# Altium schematic symbol library kmilo17pet-LT_OpAmp_LT2000.SchLib: 1710 symbols (part 27 of 75)
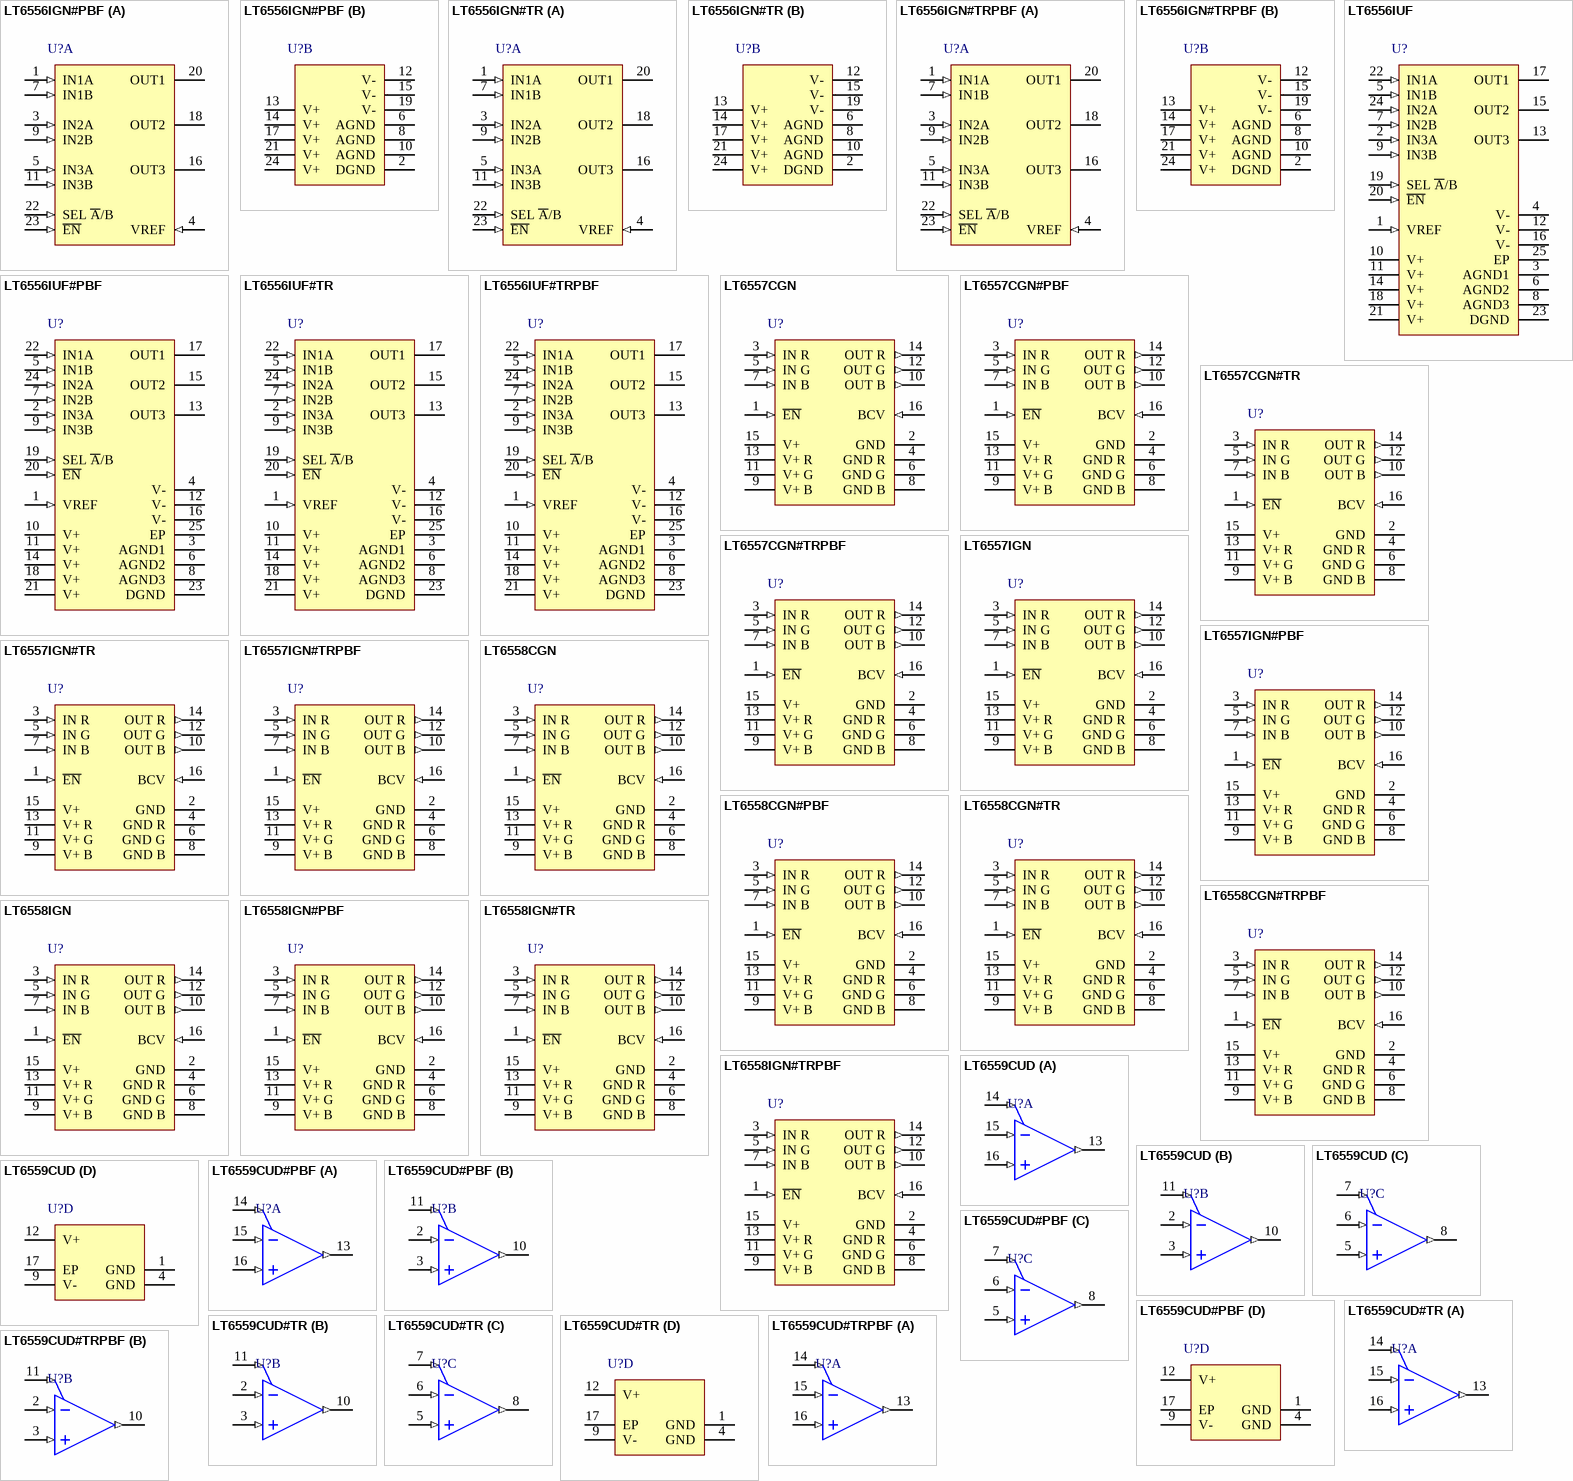
[diagram p106: symbols LT6556IGN#PBF to LT6559CUD#TRPBF]

## LT6558IGN#TRPBF
designator U?
3 Channel, Single Supply Video Amplifier with Input Bias Control, 550 MHz Typical GBW, 2200 V/us Typical SR, 3 to 7.5 V, 16-Pin SOP (GN-16), Industrial, Pb-Free, Reel; Linear Technology Part Number: LT6558; Manufacturer: Linear Technology; PartNumber: LT6558IGN#TRPBF; Channels (#): 3; GBW (MHz) Typical: 550; Is (mA) Typical: 22.5; SR (V/us) Typical: 2200; Vos (mV) Typical: 12; Vs Max (V): 7.5; PackageVersion: Rev B; PackageReference: LT-GN-16; PackageDescription: 16-Lead Plastic SSOP, Body 4.9 x 3.9 mm, Pitch 0.635 mm; Supplier 1: Digi-Key; Supplier Part Number 1: LT6558IGN#TRPBF-ND; Packing: Reel; RoHS: Pb-Free; Type: CFA; Vs Min (V): 3; Mounting Technology: Surface Mount; ComponentLink1Description: Manufacturer URL; ComponentLink1URL: http://www.linear.com/; ComponentLink2Description: Datasheet; ComponentLink2URL: http://cds.linear.com/docs/en/datasheet/6558f.pdf; ComponentLink3Description: Package Specification; ComponentLink3URL: http://cds.linear.com/docs/en/packaging/05081641_B_GN16.pdf
footprint LT-GN-16_N (SOP, 16-Leads, Body 4.9x3.9mm, Pitch 0.635mm, IPC Medium Density)
footprint LT-GN-16_L (SOP, 16-Leads, Body 4.9x3.9mm, Pitch 0.635mm, IPC High Density)
footprint LT-GN-16_M (SOP, 16-Leads, Body 4.9x3.9mm, Pitch 0.635mm, IPC Low Density)
pins: 1 ~{EN} (in) "Enable Control Pin. The part is enabled when this pin is pulled low. An internal pull-up resistor of 40k will turn the part off if this pin is unconnected", 2 GND (power) "Ground Reference for Enable Pin (Pin 1) and Bias Control Voltage Pin (Pin 16). This pin must be connected externally to ground", 3 IN R (in) "Red Channel Input. This pin has a nominal impedance of 450k ohm with input bias circuit inactive, Pin 16 open.", 4 GND R (power) "Ground of Red Channel Amplifi er. This pin is not internally connected to other ground pins and must be connected externally to ground.", 5 IN G (in) "Green Channel Input. This pin has a nominal impedance of 450k ohm with input bias circuit inactive, Pin 16 open.", 6 GND G (power) "Ground of Green Channel Amplifi er. This pin is not internally connected to other ground pins and must be connected externally to ground.", 7 IN B (in) "Blue Channel Input. This pin has a nominal impedance of 450k ohm with input bias circuit inactive, Pin 16 open.", 8 GND B (power) "Ground of Blue Channel Amplifi er. This pin is not internally connected to other ground pins and must be connected externally to ground.", 9 V+ B (power) "Positive Supply Voltage of Blue Channel Amplifi er. This pin is not internally connected to other supply voltage pins and must be externally connected to the supply voltage bus with proper bypassing. For best performance, (See Datasheet)", 10 OUT B (out) "Blue Channel Output.", 11 V+ G (power) "Positive Supply Voltage of Green Channel Amplifi er. This pin is not internally connected to other supply voltage pins and must be externally connected to the supply voltage bus with proper bypassing. For best performance, (See Datasheet)", 12 OUT G (out) "Green Channel Output.", 13 V+ R (power) "Positive Supply Voltage of Red Channel Amplifi er. This pin is not internally connected to other supply voltage pins and must be externally connected tothe supply voltage bus with proper bypassing. For best performance, see (See Datasheet)", 14 OUT R (out) "Red Channel Output.", 15 V+ (power) "Positive Supply Voltage of Control Circuitry. This pin is not internally connected to other supply voltage pins and must be externally connected to supply voltage bus with proper bypassing. For best performance, see Power (See Datasheet)", 16 BCV (in) "Bias Control Voltage. A resistor connected between Pin 16 and Pin 2 (GND) will generate a DC voltage bias at the inputs of the three amplifi ers for AC coupling application, see Programmable Input Bias."

## LT6559CUD
designator U?
3 Channel, Low Cost Video Amplifier, 300 MHz Typical GBW, 500 V/us Typical SR, 4 to 12 V, 16-Pin QFN (UD-16), Commercial; Linear Technology Part Number: LT6559; Manufacturer: Linear Technology; PartNumber: LT6559CUD; Channels (#): 3; GBW (MHz) Typical: 300; Is (mA) Typical: 3.9; SR (V/us) Typical: 500; Vos (mV) Typical: 1.5; Vs Max (V): 12; Vs Min (V): 4; PackageReference: LT-UD-16; PackageDescription: 16-Lead Plastic QFN, Body 3.00 x 3.00 mm, Pitch 0.5 mm; Type: VIDEO; Mounting Technology: Surface Mount; Code_JEDEC: MO-220; ComponentLink1Description: Manufacturer URL; ComponentLink1URL: http://www.linear.com/; ComponentLink2Description: Datasheet; ComponentLink2URL: http://cds.linear.com/docs/en/datasheet/6559f.pdf; ComponentLink3Description: Package Specification; ComponentLink3URL: http://cds.linear.com/docs/en/packaging/QFN_16_05-08-1691.pdf
footprint LT-UD-16_N (QFN, 16-Leads, Body 3x3mm, Pitch 0.5mm, Thermal Pad 1.45x1.45mm, IPC Medium Density)
footprint LT-UD-16_L (QFN, 16-Leads, Body 3x3mm, Pitch 0.5mm, Thermal Pad 1.45x1.45mm, IPC High Density)
footprint LT-UD-16_M (QFN, 16-Leads, Body 3x3mm, Pitch 0.5mm, Thermal Pad 1.45x1.45mm, IPC Low Density)
part A pins: 13 OUT R (out) "R Channel Output.", 14 ~{EN} R (in) "R Channel Enable Pin. Logic low to enable.", 15 -IN R (in) "Inverting Input of R Channel Amplifier.", 16 +IN R (in) "Noninverting Input of R Channel Amplifier."
part B pins: 2 -IN G (in) "Inverting Input of G Channel Amplifier.", 3 +IN G (in) "Noninverting Input of G Channel Amplifier.", 10 OUT G (out) "G Channel Output.", 11 ~{EN} G (in) "G Channel Enable Pin. Logic low to enable."
part C pins: 5 +IN B (in) "Noninverting Input of B Channel Amplifier.", 6 -IN B (in) "Inverting Input of B Channel Amplifier.", 7 ~{EN} B (in) "B Channel Enable Pin. Logic low to enable.", 8 OUT B (out) "B Channel Output."
part D pins: 1 GND (power) "Ground. Not connected internally.", 4 GND (power) "Ground. Not connected internally.", 9 V- (power) "Negative Supply Voltage, Usually Ground or -5V.", 12 V+ (power) "Positive Supply Voltage, Usually 5V.", 17 EP (power) "V-. Must Be Soldered to the PCB."

## LT6559CUD#PBF
designator U?
3 Channel, Low Cost Video Amplifier, 300 MHz Typical GBW, 500 V/us Typical SR, 4 to 12 V, 16-Pin QFN (UD-16), Commercial, Pb-Free; Linear Technology Part Number: LT6559; Manufacturer: Linear Technology; PartNumber: LT6559CUD#PBF; Channels (#): 3; GBW (MHz) Typical: 300; Is (mA) Typical: 3.9; SR (V/us) Typical: 500; Vos (mV) Typical: 1.5; Vs Max (V): 12; Vs Min (V): 4; PackageReference: LT-UD-16; PackageDescription: 16-Lead Plastic QFN, Body 3.00 x 3.00 mm, Pitch 0.5 mm; Supplier 1: Digi-Key; Supplier Part Number 1: LT6559CUD#PBF-ND; Supplier 2: Farnell; Supplier Part Number 2: 1329370; RoHS: Pb-Free; Type: VIDEO; Mounting Technology: Surface Mount; Code_JEDEC: MO-220; ComponentLink1Description: Manufacturer URL; ComponentLink1URL: http://www.linear.com/; ComponentLink2Description: Datasheet; ComponentLink2URL: http://cds.linear.com/docs/en/datasheet/6559f.pdf; ComponentLink3Description: Package Specification; ComponentLink3URL: http://cds.linear.com/docs/en/packaging/QFN_16_05-08-1691.pdf
footprint LT-UD-16_N (QFN, 16-Leads, Body 3x3mm, Pitch 0.5mm, Thermal Pad 1.45x1.45mm, IPC Medium Density)
footprint LT-UD-16_L (QFN, 16-Leads, Body 3x3mm, Pitch 0.5mm, Thermal Pad 1.45x1.45mm, IPC High Density)
footprint LT-UD-16_M (QFN, 16-Leads, Body 3x3mm, Pitch 0.5mm, Thermal Pad 1.45x1.45mm, IPC Low Density)
part A pins: 13 OUT R (out) "R Channel Output.", 14 ~{EN} R (in) "R Channel Enable Pin. Logic low to enable.", 15 -IN R (in) "Inverting Input of R Channel Amplifier.", 16 +IN R (in) "Noninverting Input of R Channel Amplifier."
part B pins: 2 -IN G (in) "Inverting Input of G Channel Amplifier.", 3 +IN G (in) "Noninverting Input of G Channel Amplifier.", 10 OUT G (out) "G Channel Output.", 11 ~{EN} G (in) "G Channel Enable Pin. Logic low to enable."
part C pins: 5 +IN B (in) "Noninverting Input of B Channel Amplifier.", 6 -IN B (in) "Inverting Input of B Channel Amplifier.", 7 ~{EN} B (in) "B Channel Enable Pin. Logic low to enable.", 8 OUT B (out) "B Channel Output."
part D pins: 1 GND (power) "Ground. Not connected internally.", 4 GND (power) "Ground. Not connected internally.", 9 V- (power) "Negative Supply Voltage, Usually Ground or -5V.", 12 V+ (power) "Positive Supply Voltage, Usually 5V.", 17 EP (power) "V-. Must Be Soldered to the PCB."

## LT6559CUD#TR
designator U?
3 Channel, Low Cost Video Amplifier, 300 MHz Typical GBW, 500 V/us Typical SR, 4 to 12 V, 16-Pin QFN (UD-16), Commercial, Reel; Linear Technology Part Number: LT6559; Manufacturer: Linear Technology; PartNumber: LT6559CUD#TR; Channels (#): 3; GBW (MHz) Typical: 300; Is (mA) Typical: 3.9; SR (V/us) Typical: 500; Vos (mV) Typical: 1.5; Vs Max (V): 12; Vs Min (V): 4; PackageReference: LT-UD-16; PackageDescription: 16-Lead Plastic QFN, Body 3.00 x 3.00 mm, Pitch 0.5 mm; Packing: Reel; Type: VIDEO; Mounting Technology: Surface Mount; Code_JEDEC: MO-220; ComponentLink1Description: Manufacturer URL; ComponentLink1URL: http://www.linear.com/; ComponentLink2Description: Datasheet; ComponentLink2URL: http://cds.linear.com/docs/en/datasheet/6559f.pdf; ComponentLink3Description: Package Specification; ComponentLink3URL: http://cds.linear.com/docs/en/packaging/QFN_16_05-08-1691.pdf
footprint LT-UD-16_N (QFN, 16-Leads, Body 3x3mm, Pitch 0.5mm, Thermal Pad 1.45x1.45mm, IPC Medium Density)
footprint LT-UD-16_L (QFN, 16-Leads, Body 3x3mm, Pitch 0.5mm, Thermal Pad 1.45x1.45mm, IPC High Density)
footprint LT-UD-16_M (QFN, 16-Leads, Body 3x3mm, Pitch 0.5mm, Thermal Pad 1.45x1.45mm, IPC Low Density)
part A pins: 13 OUT R (out) "R Channel Output.", 14 ~{EN} R (in) "R Channel Enable Pin. Logic low to enable.", 15 -IN R (in) "Inverting Input of R Channel Amplifier.", 16 +IN R (in) "Noninverting Input of R Channel Amplifier."
part B pins: 2 -IN G (in) "Inverting Input of G Channel Amplifier.", 3 +IN G (in) "Noninverting Input of G Channel Amplifier.", 10 OUT G (out) "G Channel Output.", 11 ~{EN} G (in) "G Channel Enable Pin. Logic low to enable."
part C pins: 5 +IN B (in) "Noninverting Input of B Channel Amplifier.", 6 -IN B (in) "Inverting Input of B Channel Amplifier.", 7 ~{EN} B (in) "B Channel Enable Pin. Logic low to enable.", 8 OUT B (out) "B Channel Output."
part D pins: 1 GND (power) "Ground. Not connected internally.", 4 GND (power) "Ground. Not connected internally.", 9 V- (power) "Negative Supply Voltage, Usually Ground or -5V.", 12 V+ (power) "Positive Supply Voltage, Usually 5V.", 17 EP (power) "V-. Must Be Soldered to the PCB."

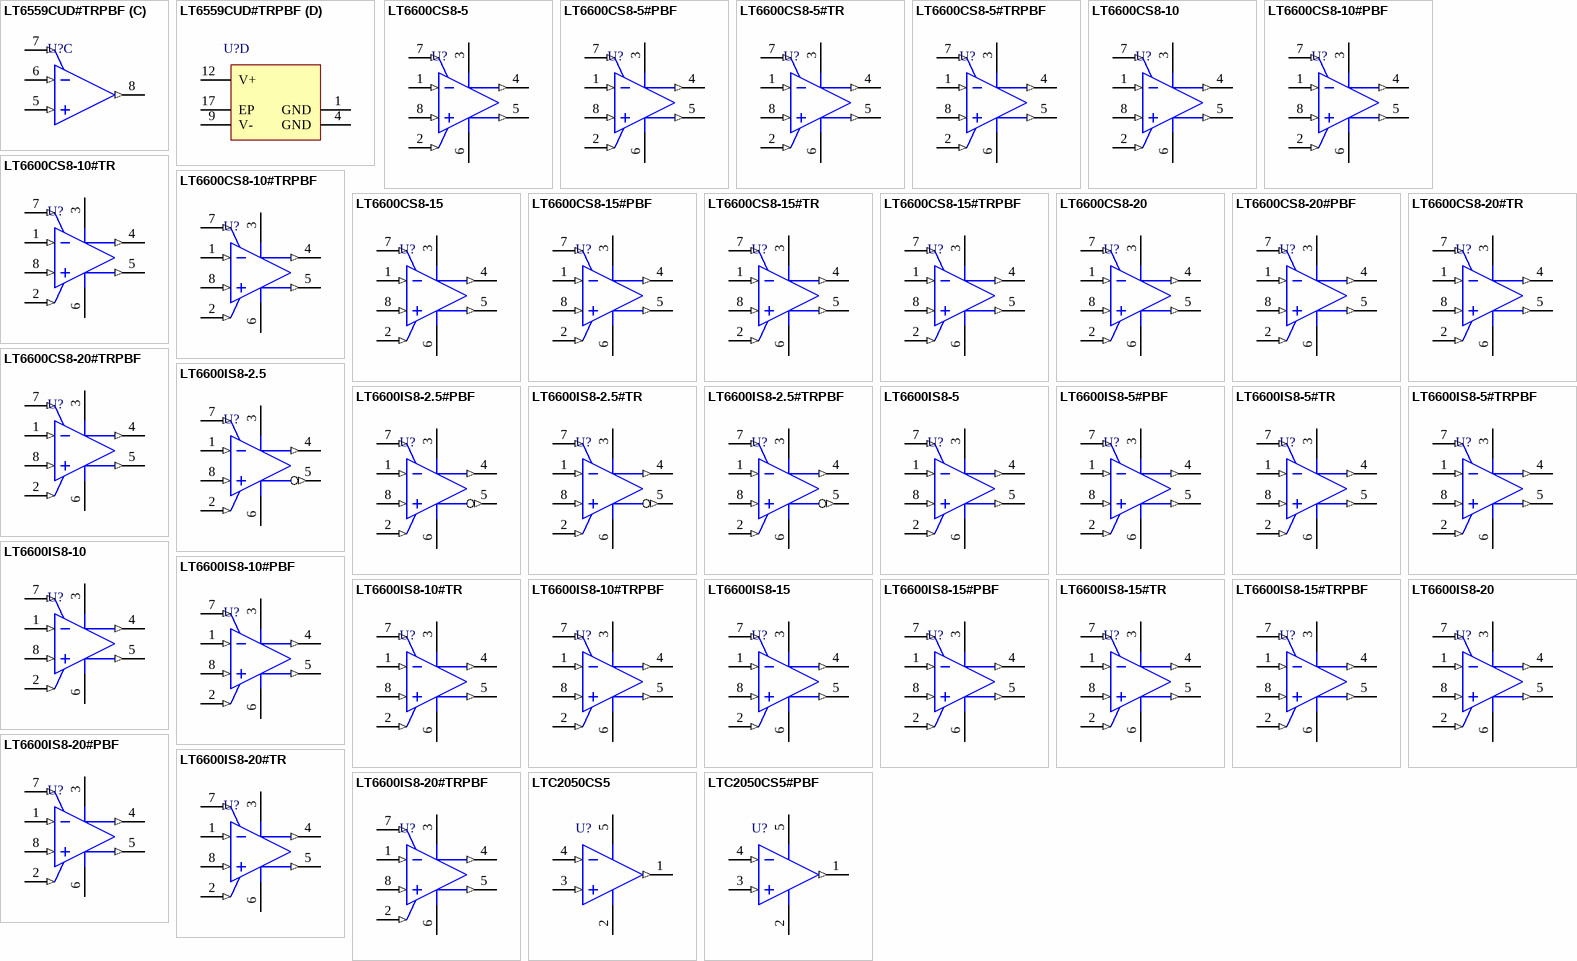
[diagram p35: symbols LT6559CUD#TRPBF to LTC2050CS5#PBF]

## LT6559CUD#TRPBF
designator U?
3 Channel, Low Cost Video Amplifier, 300 MHz Typical GBW, 500 V/us Typical SR, 4 to 12 V, 16-Pin QFN (UD-16), Commercial, Pb-Free, Reel; Linear Technology Part Number: LT6559; Manufacturer: Linear Technology; PartNumber: LT6559CUD#TRPBF; Channels (#): 3; GBW (MHz) Typical: 300; Is (mA) Typical: 3.9; SR (V/us) Typical: 500; Vos (mV) Typical: 1.5; Vs Max (V): 12; Vs Min (V): 4; PackageReference: LT-UD-16; PackageDescription: 16-Lead Plastic QFN, Body 3.00 x 3.00 mm, Pitch 0.5 mm; Supplier 1: Digi-Key; Supplier Part Number 1: LT6559CUD#TRPBF-ND; Packing: Reel; RoHS: Pb-Free; Type: VIDEO; Mounting Technology: Surface Mount; Code_JEDEC: MO-220; ComponentLink1Description: Manufacturer URL; ComponentLink1URL: http://www.linear.com/; ComponentLink2Description: Datasheet; ComponentLink2URL: http://cds.linear.com/docs/en/datasheet/6559f.pdf; ComponentLink3Description: Package Specification; ComponentLink3URL: http://cds.linear.com/docs/en/packaging/QFN_16_05-08-1691.pdf
footprint LT-UD-16_N (QFN, 16-Leads, Body 3x3mm, Pitch 0.5mm, Thermal Pad 1.45x1.45mm, IPC Medium Density)
footprint LT-UD-16_L (QFN, 16-Leads, Body 3x3mm, Pitch 0.5mm, Thermal Pad 1.45x1.45mm, IPC High Density)
footprint LT-UD-16_M (QFN, 16-Leads, Body 3x3mm, Pitch 0.5mm, Thermal Pad 1.45x1.45mm, IPC Low Density)
part A pins: 13 OUT R (out) "R Channel Output.", 14 ~{EN} R (in) "R Channel Enable Pin. Logic low to enable.", 15 -IN R (in) "Inverting Input of R Channel Amplifier.", 16 +IN R (in) "Noninverting Input of R Channel Amplifier."
part B pins: 2 -IN G (in) "Inverting Input of G Channel Amplifier.", 3 +IN G (in) "Noninverting Input of G Channel Amplifier.", 10 OUT G (out) "G Channel Output.", 11 ~{EN} G (in) "G Channel Enable Pin. Logic low to enable."
part C pins: 5 +IN B (in) "Noninverting Input of B Channel Amplifier.", 6 -IN B (in) "Inverting Input of B Channel Amplifier.", 7 ~{EN} B (in) "B Channel Enable Pin. Logic low to enable.", 8 OUT B (out) "B Channel Output."
part D pins: 1 GND (power) "Ground. Not connected internally.", 4 GND (power) "Ground. Not connected internally.", 9 V- (power) "Negative Supply Voltage, Usually Ground or -5V.", 12 V+ (power) "Positive Supply Voltage, Usually 5V.", 17 EP (power) "V-. Must Be Soldered to the PCB."

## LT6600CS8-5
designator U?
Single Channel, Very Low Noise, Differential Amplifier and 5 MHz Lowpass Filter, 5 MHz Typical GBW, 2.7 to 11 V, 8-Pin SOIC (S8-8), Commercial; Linear Technology Part Number: LT6600-5; Manufacturer: Linear Technology; PartNumber: LT6600CS8-5; Channels (#): 1; GBW (MHz) Typical: 5; Is (mA) Typical: 28; Vs Max (V): 11; Vs Min (V): 2.7; DatasheetVersion: Rev. B; PackageVersion: Rev G; PackageReference: LT-S8-8; PackageDescription: 8-Pin Plastic Small Outline, Body 4.9 x 3.9 mm, Pitch 1.27 mm; Type: DIFF; Vos (mV) Typical: 5; Mounting Technology: Surface Mount; ComponentLink1Description: Manufacturer URL; ComponentLink1URL: http://www.linear.com/; ComponentLink2Description: Datasheet; ComponentLink2URL: http://cds.linear.com/docs/en/datasheet/66005fb.pdf; ComponentLink3Description: Package Specification; ComponentLink3URL: http://cds.linear.com/docs/en/packaging/05081610_G_SO8.pdf
footprint LT-S8-8_N (SOIC, 8-Leads, Body 4.9x3.9mm, Pitch 1.27mm, IPC Medium Density)
footprint LT-S8-8_L (SOIC, 8-Leads, Body 4.9x3.9mm, Pitch 1.27mm, IPC High Density)
footprint LT-S8-8_M (SOIC, 8-Leads, Body 4.9x3.9mm, Pitch 1.27mm, IPC Low Density)
pins: 1 IN- (in) "Input Pins. Signals can be applied to either or both input pins through identical external resistors, RIN. The DC gain from differential inputs to the differential outputs is 1580ohm/RIN.", 2 VOCM (in) "Is the DC Common Mode Reference Voltage for the 2nd Filter Stage. Its value programs the common mode voltage of the differential output of the fi lter. This is a high impedance input, which can be driven from an external (See Datasheet)", 3 V+ (power) "Power Supply Pins. For a single 3.3V or 5V supply (V- grounded) a quality 0.1uF ceramic bypass capacitor is required from the positive supply pin (V+) to the negative supply pin (V-). The bypass should be as close as (See Datasheet)", 4 OUT+ (out) "Output Pins. These are the fi lter differential outputs. Each pin can drive a 100O and/or 50pF load to AC ground.", 5 OUT- (out) "Output Pins. These are the fi lter differential outputs. Each pin can drive a 100ohm and/or 50pF load to AC ground.", 6 V- (power) "Power Supply Pins. For a single 3.3V or 5V supply (V- grounded) a quality 0.1µF ceramic bypass capacitor is required from the positive supply pin (V+) to the negative supply pin (V-). The bypass should be as close as (See Datasheet)", 7 VMID (in) "The VMID pin is internally biased at mid-supply, see block diagram. For single-supply operation the VMID pin should be bypassed with a quality 0.01uF ceramic capacitor to V-. For dual supply operation, VMID can be bypassed (See Datasheet)", 8 IN+ (in) "Input Pins. Signals can be applied to either or both input pins through identical external resistors, RIN. The DC gain from differential inputs to the differential outputs is 1580ohm/RIN."

## LT6600CS8-5#PBF
designator U?
Single Channel, Very Low Noise, Differential Amplifier and 5 MHz Lowpass Filter, 5 MHz Typical GBW, 2.7 to 11 V, 8-Pin SOIC (S8-8), Commercial, Pb-Free; Linear Technology Part Number: LT6600-5; Manufacturer: Linear Technology; PartNumber: LT6600CS8-5#PBF; Channels (#): 1; GBW (MHz) Typical: 5; Is (mA) Typical: 28; Vs Max (V): 11; Vs Min (V): 2.7; DatasheetVersion: Rev. B; PackageVersion: Rev G; PackageReference: LT-S8-8; PackageDescription: 8-Pin Plastic Small Outline, Body 4.9 x 3.9 mm, Pitch 1.27 mm; Supplier 1: Digi-Key; Supplier Part Number 1: LT6600CS8-5#PBF-ND; Supplier 2: Newark; Supplier Part Number 2: 57M9572; RoHS: Pb-Free; Type: DIFF; Vos (mV) Typical: 5; Mounting Technology: Surface Mount; ComponentLink1Description: Manufacturer URL; ComponentLink1URL: http://www.linear.com/; ComponentLink2Description: Datasheet; ComponentLink2URL: http://cds.linear.com/docs/en/datasheet/66005fb.pdf; ComponentLink3Description: Package Specification; ComponentLink3URL: http://cds.linear.com/docs/en/packaging/05081610_G_SO8.pdf
footprint LT-S8-8_N (SOIC, 8-Leads, Body 4.9x3.9mm, Pitch 1.27mm, IPC Medium Density)
footprint LT-S8-8_L (SOIC, 8-Leads, Body 4.9x3.9mm, Pitch 1.27mm, IPC High Density)
footprint LT-S8-8_M (SOIC, 8-Leads, Body 4.9x3.9mm, Pitch 1.27mm, IPC Low Density)
pins: 1 IN- (in) "Input Pins. Signals can be applied to either or both input pins through identical external resistors, RIN. The DC gain from differential inputs to the differential outputs is 1580ohm/RIN.", 2 VOCM (in) "Is the DC Common Mode Reference Voltage for the 2nd Filter Stage. Its value programs the common mode voltage of the differential output of the fi lter. This is a high impedance input, which can be driven from an external (See Datasheet)", 3 V+ (power) "Power Supply Pins. For a single 3.3V or 5V supply (V- grounded) a quality 0.1uF ceramic bypass capacitor is required from the positive supply pin (V+) to the negative supply pin (V-). The bypass should be as close as (See Datasheet)", 4 OUT+ (out) "Output Pins. These are the fi lter differential outputs. Each pin can drive a 100O and/or 50pF load to AC ground.", 5 OUT- (out) "Output Pins. These are the fi lter differential outputs. Each pin can drive a 100ohm and/or 50pF load to AC ground.", 6 V- (power) "Power Supply Pins. For a single 3.3V or 5V supply (V- grounded) a quality 0.1µF ceramic bypass capacitor is required from the positive supply pin (V+) to the negative supply pin (V-). The bypass should be as close as (See Datasheet)", 7 VMID (in) "The VMID pin is internally biased at mid-supply, see block diagram. For single-supply operation the VMID pin should be bypassed with a quality 0.01uF ceramic capacitor to V-. For dual supply operation, VMID can be bypassed (See Datasheet)", 8 IN+ (in) "Input Pins. Signals can be applied to either or both input pins through identical external resistors, RIN. The DC gain from differential inputs to the differential outputs is 1580ohm/RIN."

## LT6600CS8-5#TR
designator U?
Single Channel, Very Low Noise, Differential Amplifier and 5 MHz Lowpass Filter, 5 MHz Typical GBW, 2.7 to 11 V, 8-Pin SOIC (S8-8), Commercial, Reel; Linear Technology Part Number: LT6600-5; Manufacturer: Linear Technology; PartNumber: LT6600CS8-5#TR; Channels (#): 1; GBW (MHz) Typical: 5; Is (mA) Typical: 28; Vs Max (V): 11; Vs Min (V): 2.7; DatasheetVersion: Rev. B; PackageVersion: Rev G; PackageReference: LT-S8-8; PackageDescription: 8-Pin Plastic Small Outline, Body 4.9 x 3.9 mm, Pitch 1.27 mm; Packing: Reel; Type: DIFF; Vos (mV) Typical: 5; Mounting Technology: Surface Mount; ComponentLink1Description: Manufacturer URL; ComponentLink1URL: http://www.linear.com/; ComponentLink2Description: Datasheet; ComponentLink2URL: http://cds.linear.com/docs/en/datasheet/66005fb.pdf; ComponentLink3Description: Package Specification; ComponentLink3URL: http://cds.linear.com/docs/en/packaging/05081610_G_SO8.pdf
footprint LT-S8-8_N (SOIC, 8-Leads, Body 4.9x3.9mm, Pitch 1.27mm, IPC Medium Density)
footprint LT-S8-8_L (SOIC, 8-Leads, Body 4.9x3.9mm, Pitch 1.27mm, IPC High Density)
footprint LT-S8-8_M (SOIC, 8-Leads, Body 4.9x3.9mm, Pitch 1.27mm, IPC Low Density)
pins: 1 IN- (in) "Input Pins. Signals can be applied to either or both input pins through identical external resistors, RIN. The DC gain from differential inputs to the differential outputs is 1580ohm/RIN.", 2 VOCM (in) "Is the DC Common Mode Reference Voltage for the 2nd Filter Stage. Its value programs the common mode voltage of the differential output of the fi lter. This is a high impedance input, which can be driven from an external (See Datasheet)", 3 V+ (power) "Power Supply Pins. For a single 3.3V or 5V supply (V- grounded) a quality 0.1uF ceramic bypass capacitor is required from the positive supply pin (V+) to the negative supply pin (V-). The bypass should be as close as (See Datasheet)", 4 OUT+ (out) "Output Pins. These are the fi lter differential outputs. Each pin can drive a 100O and/or 50pF load to AC ground.", 5 OUT- (out) "Output Pins. These are the fi lter differential outputs. Each pin can drive a 100ohm and/or 50pF load to AC ground.", 6 V- (power) "Power Supply Pins. For a single 3.3V or 5V supply (V- grounded) a quality 0.1µF ceramic bypass capacitor is required from the positive supply pin (V+) to the negative supply pin (V-). The bypass should be as close as (See Datasheet)", 7 VMID (in) "The VMID pin is internally biased at mid-supply, see block diagram. For single-supply operation the VMID pin should be bypassed with a quality 0.01uF ceramic capacitor to V-. For dual supply operation, VMID can be bypassed (See Datasheet)", 8 IN+ (in) "Input Pins. Signals can be applied to either or both input pins through identical external resistors, RIN. The DC gain from differential inputs to the differential outputs is 1580ohm/RIN."

## LT6600CS8-5#TRPBF
designator U?
Single Channel, Very Low Noise, Differential Amplifier and 5 MHz Lowpass Filter, 5 MHz Typical GBW, 2.7 to 11 V, 8-Pin SOIC (S8-8), Commercial, Pb-Free, Reel; Linear Technology Part Number: LT6600-5; Manufacturer: Linear Technology; PartNumber: LT6600CS8-5#TRPBF; Channels (#): 1; GBW (MHz) Typical: 5; Is (mA) Typical: 28; Vs Max (V): 11; Vs Min (V): 2.7; DatasheetVersion: Rev. B; PackageVersion: Rev G; PackageReference: LT-S8-8; PackageDescription: 8-Pin Plastic Small Outline, Body 4.9 x 3.9 mm, Pitch 1.27 mm; Supplier 1: Digi-Key; Supplier Part Number 1: LT6600CS8-5#TRPBF-ND; Packing: Reel; RoHS: Pb-Free; Type: DIFF; Vos (mV) Typical: 5; Mounting Technology: Surface Mount; ComponentLink1Description: Manufacturer URL; ComponentLink1URL: http://www.linear.com/; ComponentLink2Description: Datasheet; ComponentLink2URL: http://cds.linear.com/docs/en/datasheet/66005fb.pdf; ComponentLink3Description: Package Specification; ComponentLink3URL: http://cds.linear.com/docs/en/packaging/05081610_G_SO8.pdf
footprint LT-S8-8_N (SOIC, 8-Leads, Body 4.9x3.9mm, Pitch 1.27mm, IPC Medium Density)
footprint LT-S8-8_L (SOIC, 8-Leads, Body 4.9x3.9mm, Pitch 1.27mm, IPC High Density)
footprint LT-S8-8_M (SOIC, 8-Leads, Body 4.9x3.9mm, Pitch 1.27mm, IPC Low Density)
pins: 1 IN- (in) "Input Pins. Signals can be applied to either or both input pins through identical external resistors, RIN. The DC gain from differential inputs to the differential outputs is 1580ohm/RIN.", 2 VOCM (in) "Is the DC Common Mode Reference Voltage for the 2nd Filter Stage. Its value programs the common mode voltage of the differential output of the fi lter. This is a high impedance input, which can be driven from an external (See Datasheet)", 3 V+ (power) "Power Supply Pins. For a single 3.3V or 5V supply (V- grounded) a quality 0.1uF ceramic bypass capacitor is required from the positive supply pin (V+) to the negative supply pin (V-). The bypass should be as close as (See Datasheet)", 4 OUT+ (out) "Output Pins. These are the fi lter differential outputs. Each pin can drive a 100O and/or 50pF load to AC ground.", 5 OUT- (out) "Output Pins. These are the fi lter differential outputs. Each pin can drive a 100ohm and/or 50pF load to AC ground.", 6 V- (power) "Power Supply Pins. For a single 3.3V or 5V supply (V- grounded) a quality 0.1µF ceramic bypass capacitor is required from the positive supply pin (V+) to the negative supply pin (V-). The bypass should be as close as (See Datasheet)", 7 VMID (in) "The VMID pin is internally biased at mid-supply, see block diagram. For single-supply operation the VMID pin should be bypassed with a quality 0.01uF ceramic capacitor to V-. For dual supply operation, VMID can be bypassed (See Datasheet)", 8 IN+ (in) "Input Pins. Signals can be applied to either or both input pins through identical external resistors, RIN. The DC gain from differential inputs to the differential outputs is 1580ohm/RIN."

## LT6600CS8-10
designator U?
Single Channel, Very Low Noise, Differential Amplifier and 10 MHz Lowpass Filter, 10 MHz Typical GBW, 2.7 to 11 V, 8-Pin SOIC (S8-8), Commercial; Linear Technology Part Number: LT6600-10; Manufacturer: Linear Technology; PartNumber: LT6600CS8-10; Channels (#): 1; GBW (MHz) Typical: 10; Is (mA) Typical: 35; Vos (mV) Typical: 5; Vs Max (V): 11; Vs Min (V): 2.7; DatasheetVersion: Rev. E; PackageVersion: Rev G; PackageReference: LT-S8-8; PackageDescription: 8-Pin Plastic Small Outline, Body 4.9 x 3.9 mm, Pitch 1.27 mm; Supplier 1: Digi-Key; Supplier Part Number 1: LT6600CS8-10-ND; Type: DIFF; Mounting Technology: Surface Mount; ComponentLink1Description: Manufacturer URL; ComponentLink1URL: http://www.linear.com/; ComponentLink2Description: Datasheet; ComponentLink2URL: http://cds.linear.com/docs/en/datasheet/66001fe.pdf; ComponentLink3Description: Package Specification; ComponentLink3URL: http://cds.linear.com/docs/en/packaging/05081610_G_SO8.pdf
footprint LT-S8-8_N (SOIC, 8-Leads, Body 4.9x3.9mm, Pitch 1.27mm, IPC Medium Density)
footprint LT-S8-8_L (SOIC, 8-Leads, Body 4.9x3.9mm, Pitch 1.27mm, IPC High Density)
footprint LT-S8-8_M (SOIC, 8-Leads, Body 4.9x3.9mm, Pitch 1.27mm, IPC Low Density)
pins: 1 IN- (in) "Input Pins. Signals can be applied to either or both input pins through identical external resistors, RIN. The DC gain from differential inputs to the differential outputs is 1580ohm/RIN.", 2 VOCM (in) "Is the DC Common Mode Reference Voltage for the 2nd Filter Stage. Its value programs the common mode voltage of the differential output of the fi lter. This is a high impedance input, which can be driven from an external (See Datasheet)", 3 V+ (power) "Power Supply Pins. For a single 3.3V or 5V supply (V- grounded) a quality 0.1uF ceramic bypass capacitor is required from the positive supply pin (V+) to the negative supply pin (V-). The bypass should be as close as (See Datasheet)", 4 OUT+ (out) "Output Pins. These are the fi lter differential outputs. Each pin can drive a 100O and/or 50pF load to AC ground.", 5 OUT- (out) "Output Pins. These are the fi lter differential outputs. Each pin can drive a 100ohm and/or 50pF load to AC ground.", 6 V- (power) "Power Supply Pins. For a single 3.3V or 5V supply (V- grounded) a quality 0.1µF ceramic bypass capacitor is required from the positive supply pin (V+) to the negative supply pin (V-). The bypass should be as close as (See Datasheet)", 7 VMID (in) "The VMID pin is internally biased at mid-supply, see block diagram. For single-supply operation the VMID pin should be bypassed with a quality 0.01uF ceramic capacitor to V-. For dual supply operation, VMID can be bypassed (See Datasheet)", 8 IN+ (in) "Input Pins. Signals can be applied to either or both input pins through identical external resistors, RIN. The DC gain from differential inputs to the differential outputs is 1580ohm/RIN."

## LT6600CS8-10#PBF
designator U?
Single Channel, Very Low Noise, Differential Amplifier and 10 MHz Lowpass Filter, 10 MHz Typical GBW, 2.7 to 11 V, 8-Pin SOIC (S8-8), Commercial, Pb-Free; Linear Technology Part Number: LT6600-10; Manufacturer: Linear Technology; PartNumber: LT6600CS8-10#PBF; Channels (#): 1; GBW (MHz) Typical: 10; Is (mA) Typical: 35; Vos (mV) Typical: 5; Vs Max (V): 11; Vs Min (V): 2.7; DatasheetVersion: Rev. E; PackageVersion: Rev G; PackageReference: LT-S8-8; PackageDescription: 8-Pin Plastic Small Outline, Body 4.9 x 3.9 mm, Pitch 1.27 mm; Supplier 1: Digi-Key; Supplier Part Number 1: LT6600CS8-10#PBF-ND; Supplier 2: Newark; Supplier Part Number 2: 57M9556; RoHS: Pb-Free; Type: DIFF; Mounting Technology: Surface Mount; ComponentLink1Description: Manufacturer URL; ComponentLink1URL: http://www.linear.com/; ComponentLink2Description: Datasheet; ComponentLink2URL: http://cds.linear.com/docs/en/datasheet/66001fe.pdf; ComponentLink3Description: Package Specification; ComponentLink3URL: http://cds.linear.com/docs/en/packaging/05081610_G_SO8.pdf
footprint LT-S8-8_N (SOIC, 8-Leads, Body 4.9x3.9mm, Pitch 1.27mm, IPC Medium Density)
footprint LT-S8-8_L (SOIC, 8-Leads, Body 4.9x3.9mm, Pitch 1.27mm, IPC High Density)
footprint LT-S8-8_M (SOIC, 8-Leads, Body 4.9x3.9mm, Pitch 1.27mm, IPC Low Density)
pins: 1 IN- (in) "Input Pins. Signals can be applied to either or both input pins through identical external resistors, RIN. The DC gain from differential inputs to the differential outputs is 1580ohm/RIN.", 2 VOCM (in) "Is the DC Common Mode Reference Voltage for the 2nd Filter Stage. Its value programs the common mode voltage of the differential output of the fi lter. This is a high impedance input, which can be driven from an external (See Datasheet)", 3 V+ (power) "Power Supply Pins. For a single 3.3V or 5V supply (V- grounded) a quality 0.1uF ceramic bypass capacitor is required from the positive supply pin (V+) to the negative supply pin (V-). The bypass should be as close as (See Datasheet)", 4 OUT+ (out) "Output Pins. These are the fi lter differential outputs. Each pin can drive a 100O and/or 50pF load to AC ground.", 5 OUT- (out) "Output Pins. These are the fi lter differential outputs. Each pin can drive a 100ohm and/or 50pF load to AC ground.", 6 V- (power) "Power Supply Pins. For a single 3.3V or 5V supply (V- grounded) a quality 0.1µF ceramic bypass capacitor is required from the positive supply pin (V+) to the negative supply pin (V-). The bypass should be as close as (See Datasheet)", 7 VMID (in) "The VMID pin is internally biased at mid-supply, see block diagram. For single-supply operation the VMID pin should be bypassed with a quality 0.01uF ceramic capacitor to V-. For dual supply operation, VMID can be bypassed (See Datasheet)", 8 IN+ (in) "Input Pins. Signals can be applied to either or both input pins through identical external resistors, RIN. The DC gain from differential inputs to the differential outputs is 1580ohm/RIN."

## LT6600CS8-10#TR
designator U?
Single Channel, Very Low Noise, Differential Amplifier and 10 MHz Lowpass Filter, 10 MHz Typical GBW, 2.7 to 11 V, 8-Pin SOIC (S8-8), Commercial, Reel; Linear Technology Part Number: LT6600-10; Manufacturer: Linear Technology; PartNumber: LT6600CS8-10#TR; Channels (#): 1; GBW (MHz) Typical: 10; Is (mA) Typical: 35; Vos (mV) Typical: 5; Vs Max (V): 11; Vs Min (V): 2.7; DatasheetVersion: Rev. E; PackageVersion: Rev G; PackageReference: LT-S8-8; PackageDescription: 8-Pin Plastic Small Outline, Body 4.9 x 3.9 mm, Pitch 1.27 mm; Supplier 1: Digi-Key; Supplier Part Number 1: LT6600CS8-10#TR-ND; Packing: Reel; Type: DIFF; Mounting Technology: Surface Mount; ComponentLink1Description: Manufacturer URL; ComponentLink1URL: http://www.linear.com/; ComponentLink2Description: Datasheet; ComponentLink2URL: http://cds.linear.com/docs/en/datasheet/66001fe.pdf; ComponentLink3Description: Package Specification; ComponentLink3URL: http://cds.linear.com/docs/en/packaging/05081610_G_SO8.pdf
footprint LT-S8-8_N (SOIC, 8-Leads, Body 4.9x3.9mm, Pitch 1.27mm, IPC Medium Density)
footprint LT-S8-8_L (SOIC, 8-Leads, Body 4.9x3.9mm, Pitch 1.27mm, IPC High Density)
footprint LT-S8-8_M (SOIC, 8-Leads, Body 4.9x3.9mm, Pitch 1.27mm, IPC Low Density)
pins: 1 IN- (in) "Input Pins. Signals can be applied to either or both input pins through identical external resistors, RIN. The DC gain from differential inputs to the differential outputs is 1580ohm/RIN.", 2 VOCM (in) "Is the DC Common Mode Reference Voltage for the 2nd Filter Stage. Its value programs the common mode voltage of the differential output of the fi lter. This is a high impedance input, which can be driven from an external (See Datasheet)", 3 V+ (power) "Power Supply Pins. For a single 3.3V or 5V supply (V- grounded) a quality 0.1uF ceramic bypass capacitor is required from the positive supply pin (V+) to the negative supply pin (V-). The bypass should be as close as (See Datasheet)", 4 OUT+ (out) "Output Pins. These are the fi lter differential outputs. Each pin can drive a 100O and/or 50pF load to AC ground.", 5 OUT- (out) "Output Pins. These are the fi lter differential outputs. Each pin can drive a 100ohm and/or 50pF load to AC ground.", 6 V- (power) "Power Supply Pins. For a single 3.3V or 5V supply (V- grounded) a quality 0.1µF ceramic bypass capacitor is required from the positive supply pin (V+) to the negative supply pin (V-). The bypass should be as close as (See Datasheet)", 7 VMID (in) "The VMID pin is internally biased at mid-supply, see block diagram. For single-supply operation the VMID pin should be bypassed with a quality 0.01uF ceramic capacitor to V-. For dual supply operation, VMID can be bypassed (See Datasheet)", 8 IN+ (in) "Input Pins. Signals can be applied to either or both input pins through identical external resistors, RIN. The DC gain from differential inputs to the differential outputs is 1580ohm/RIN."

## LT6600CS8-10#TRPBF
designator U?
Single Channel, Very Low Noise, Differential Amplifier and 10 MHz Lowpass Filter, 10 MHz Typical GBW, 2.7 to 11 V, 8-Pin SOIC (S8-8), Commercial, Pb-Free, Reel; Linear Technology Part Number: LT6600-10; Manufacturer: Linear Technology; PartNumber: LT6600CS8-10#TRPBF; Channels (#): 1; GBW (MHz) Typical: 10; Is (mA) Typical: 35; Vos (mV) Typical: 5; Vs Max (V): 11; Vs Min (V): 2.7; DatasheetVersion: Rev. E; PackageVersion: Rev G; PackageReference: LT-S8-8; PackageDescription: 8-Pin Plastic Small Outline, Body 4.9 x 3.9 mm, Pitch 1.27 mm; Supplier 1: Digi-Key; Supplier Part Number 1: LT6600CS8-10#TRPBF-ND; Packing: Reel; RoHS: Pb-Free; Type: DIFF; Mounting Technology: Surface Mount; ComponentLink1Description: Manufacturer URL; ComponentLink1URL: http://www.linear.com/; ComponentLink2Description: Datasheet; ComponentLink2URL: http://cds.linear.com/docs/en/datasheet/66001fe.pdf; ComponentLink3Description: Package Specification; ComponentLink3URL: http://cds.linear.com/docs/en/packaging/05081610_G_SO8.pdf
footprint LT-S8-8_N (SOIC, 8-Leads, Body 4.9x3.9mm, Pitch 1.27mm, IPC Medium Density)
footprint LT-S8-8_L (SOIC, 8-Leads, Body 4.9x3.9mm, Pitch 1.27mm, IPC High Density)
footprint LT-S8-8_M (SOIC, 8-Leads, Body 4.9x3.9mm, Pitch 1.27mm, IPC Low Density)
pins: 1 IN- (in) "Input Pins. Signals can be applied to either or both input pins through identical external resistors, RIN. The DC gain from differential inputs to the differential outputs is 1580ohm/RIN.", 2 VOCM (in) "Is the DC Common Mode Reference Voltage for the 2nd Filter Stage. Its value programs the common mode voltage of the differential output of the fi lter. This is a high impedance input, which can be driven from an external (See Datasheet)", 3 V+ (power) "Power Supply Pins. For a single 3.3V or 5V supply (V- grounded) a quality 0.1uF ceramic bypass capacitor is required from the positive supply pin (V+) to the negative supply pin (V-). The bypass should be as close as (See Datasheet)", 4 OUT+ (out) "Output Pins. These are the fi lter differential outputs. Each pin can drive a 100O and/or 50pF load to AC ground.", 5 OUT- (out) "Output Pins. These are the fi lter differential outputs. Each pin can drive a 100ohm and/or 50pF load to AC ground.", 6 V- (power) "Power Supply Pins. For a single 3.3V or 5V supply (V- grounded) a quality 0.1µF ceramic bypass capacitor is required from the positive supply pin (V+) to the negative supply pin (V-). The bypass should be as close as (See Datasheet)", 7 VMID (in) "The VMID pin is internally biased at mid-supply, see block diagram. For single-supply operation the VMID pin should be bypassed with a quality 0.01uF ceramic capacitor to V-. For dual supply operation, VMID can be bypassed (See Datasheet)", 8 IN+ (in) "Input Pins. Signals can be applied to either or both input pins through identical external resistors, RIN. The DC gain from differential inputs to the differential outputs is 1580ohm/RIN."

## LT6600CS8-15
designator U?
Single Channel, Very Low Noise, Differential Amplifier and 15 MHz Lowpass Filter, 15 MHz Typical GBW, 2.7 to 11 V, 8-Pin SOIC (S8-8), Commercial; Linear Technology Part Number: LT6600-15; Manufacturer: Linear Technology; PartNumber: LT6600CS8-15; Channels (#): 1; GBW (MHz) Typical: 15; Is (mA) Typical: 42; Vos (mV) Typical: 5; Vs Max (V): 11; Vs Min (V): 2.7; DatasheetVersion: Rev. B; PackageVersion: Rev G; PackageReference: LT-S8-8; PackageDescription: 8-Pin Plastic Small Outline, Body 4.9 x 3.9 mm, Pitch 1.27 mm; Type: DIFF; Mounting Technology: Surface Mount; ComponentLink1Description: Manufacturer URL; ComponentLink1URL: http://www.linear.com/; ComponentLink2Description: Datasheet; ComponentLink2URL: http://cds.linear.com/docs/en/datasheet/660015fb.pdf; ComponentLink3Description: Package Specification; ComponentLink3URL: http://cds.linear.com/docs/en/packaging/05081610_G_SO8.pdf
footprint LT-S8-8_N (SOIC, 8-Leads, Body 4.9x3.9mm, Pitch 1.27mm, IPC Medium Density)
footprint LT-S8-8_L (SOIC, 8-Leads, Body 4.9x3.9mm, Pitch 1.27mm, IPC High Density)
footprint LT-S8-8_M (SOIC, 8-Leads, Body 4.9x3.9mm, Pitch 1.27mm, IPC Low Density)
pins: 1 IN- (in) "Input Pins. Signals can be applied to either or both input pins through identical external resistors, RIN. The DC gain from differential inputs to the differential outputs is 1580ohm/RIN.", 2 VOCM (in) "Is the DC Common Mode Reference Voltage for the 2nd Filter Stage. Its value programs the common mode voltage of the differential output of the fi lter. This is a high impedance input, which can be driven from an external (See Datasheet)", 3 V+ (power) "Power Supply Pins. For a single 3.3V or 5V supply (V- grounded) a quality 0.1uF ceramic bypass capacitor is required from the positive supply pin (V+) to the negative supply pin (V-). The bypass should be as close as (See Datasheet)", 4 OUT+ (out) "Output Pins. These are the fi lter differential outputs. Each pin can drive a 100O and/or 50pF load to AC ground.", 5 OUT- (out) "Output Pins. These are the fi lter differential outputs. Each pin can drive a 100ohm and/or 50pF load to AC ground.", 6 V- (power) "Power Supply Pins. For a single 3.3V or 5V supply (V- grounded) a quality 0.1µF ceramic bypass capacitor is required from the positive supply pin (V+) to the negative supply pin (V-). The bypass should be as close as (See Datasheet)", 7 VMID (in) "The VMID pin is internally biased at mid-supply, see block diagram. For single-supply operation the VMID pin should be bypassed with a quality 0.01uF ceramic capacitor to V-. For dual supply operation, VMID can be bypassed (See Datasheet)", 8 IN+ (in) "Input Pins. Signals can be applied to either or both input pins through identical external resistors, RIN. The DC gain from differential inputs to the differential outputs is 1580ohm/RIN."

## LT6600CS8-15#PBF
designator U?
Single Channel, Very Low Noise, Differential Amplifier and 15 MHz Lowpass Filter, 15 MHz Typical GBW, 2.7 to 11 V, 8-Pin SOIC (S8-8), Commercial, Pb-Free; Linear Technology Part Number: LT6600-15; Manufacturer: Linear Technology; PartNumber: LT6600CS8-15#PBF; Channels (#): 1; GBW (MHz) Typical: 15; Is (mA) Typical: 42; Vos (mV) Typical: 5; Vs Max (V): 11; Vs Min (V): 2.7; DatasheetVersion: Rev. B; PackageVersion: Rev G; PackageReference: LT-S8-8; PackageDescription: 8-Pin Plastic Small Outline, Body 4.9 x 3.9 mm, Pitch 1.27 mm; Supplier 1: Digi-Key; Supplier Part Number 1: LT6600CS8-15#PBF-ND; Supplier 2: Newark; Supplier Part Number 2: 57M9560; RoHS: Pb-Free; Type: DIFF; Mounting Technology: Surface Mount; ComponentLink1Description: Manufacturer URL; ComponentLink1URL: http://www.linear.com/; ComponentLink2Description: Datasheet; ComponentLink2URL: http://cds.linear.com/docs/en/datasheet/660015fb.pdf; ComponentLink3Description: Package Specification; ComponentLink3URL: http://cds.linear.com/docs/en/packaging/05081610_G_SO8.pdf
footprint LT-S8-8_N (SOIC, 8-Leads, Body 4.9x3.9mm, Pitch 1.27mm, IPC Medium Density)
footprint LT-S8-8_L (SOIC, 8-Leads, Body 4.9x3.9mm, Pitch 1.27mm, IPC High Density)
footprint LT-S8-8_M (SOIC, 8-Leads, Body 4.9x3.9mm, Pitch 1.27mm, IPC Low Density)
pins: 1 IN- (in) "Input Pins. Signals can be applied to either or both input pins through identical external resistors, RIN. The DC gain from differential inputs to the differential outputs is 1580ohm/RIN.", 2 VOCM (in) "Is the DC Common Mode Reference Voltage for the 2nd Filter Stage. Its value programs the common mode voltage of the differential output of the fi lter. This is a high impedance input, which can be driven from an external (See Datasheet)", 3 V+ (power) "Power Supply Pins. For a single 3.3V or 5V supply (V- grounded) a quality 0.1uF ceramic bypass capacitor is required from the positive supply pin (V+) to the negative supply pin (V-). The bypass should be as close as (See Datasheet)", 4 OUT+ (out) "Output Pins. These are the fi lter differential outputs. Each pin can drive a 100O and/or 50pF load to AC ground.", 5 OUT- (out) "Output Pins. These are the fi lter differential outputs. Each pin can drive a 100ohm and/or 50pF load to AC ground.", 6 V- (power) "Power Supply Pins. For a single 3.3V or 5V supply (V- grounded) a quality 0.1µF ceramic bypass capacitor is required from the positive supply pin (V+) to the negative supply pin (V-). The bypass should be as close as (See Datasheet)", 7 VMID (in) "The VMID pin is internally biased at mid-supply, see block diagram. For single-supply operation the VMID pin should be bypassed with a quality 0.01uF ceramic capacitor to V-. For dual supply operation, VMID can be bypassed (See Datasheet)", 8 IN+ (in) "Input Pins. Signals can be applied to either or both input pins through identical external resistors, RIN. The DC gain from differential inputs to the differential outputs is 1580ohm/RIN."

## LT6600CS8-15#TR
designator U?
Single Channel, Very Low Noise, Differential Amplifier and 15 MHz Lowpass Filter, 15 MHz Typical GBW, 2.7 to 11 V, 8-Pin SOIC (S8-8), Commercial, Reel; Linear Technology Part Number: LT6600-15; Manufacturer: Linear Technology; PartNumber: LT6600CS8-15#TR; Channels (#): 1; GBW (MHz) Typical: 15; Is (mA) Typical: 42; Vos (mV) Typical: 5; Vs Max (V): 11; Vs Min (V): 2.7; DatasheetVersion: Rev. B; PackageVersion: Rev G; PackageReference: LT-S8-8; PackageDescription: 8-Pin Plastic Small Outline, Body 4.9 x 3.9 mm, Pitch 1.27 mm; Packing: Reel; Type: DIFF; Mounting Technology: Surface Mount; ComponentLink1Description: Manufacturer URL; ComponentLink1URL: http://www.linear.com/; ComponentLink2Description: Datasheet; ComponentLink2URL: http://cds.linear.com/docs/en/datasheet/660015fb.pdf; ComponentLink3Description: Package Specification; ComponentLink3URL: http://cds.linear.com/docs/en/packaging/05081610_G_SO8.pdf
footprint LT-S8-8_N (SOIC, 8-Leads, Body 4.9x3.9mm, Pitch 1.27mm, IPC Medium Density)
footprint LT-S8-8_L (SOIC, 8-Leads, Body 4.9x3.9mm, Pitch 1.27mm, IPC High Density)
footprint LT-S8-8_M (SOIC, 8-Leads, Body 4.9x3.9mm, Pitch 1.27mm, IPC Low Density)
pins: 1 IN- (in) "Input Pins. Signals can be applied to either or both input pins through identical external resistors, RIN. The DC gain from differential inputs to the differential outputs is 1580ohm/RIN.", 2 VOCM (in) "Is the DC Common Mode Reference Voltage for the 2nd Filter Stage. Its value programs the common mode voltage of the differential output of the fi lter. This is a high impedance input, which can be driven from an external (See Datasheet)", 3 V+ (power) "Power Supply Pins. For a single 3.3V or 5V supply (V- grounded) a quality 0.1uF ceramic bypass capacitor is required from the positive supply pin (V+) to the negative supply pin (V-). The bypass should be as close as (See Datasheet)", 4 OUT+ (out) "Output Pins. These are the fi lter differential outputs. Each pin can drive a 100O and/or 50pF load to AC ground.", 5 OUT- (out) "Output Pins. These are the fi lter differential outputs. Each pin can drive a 100ohm and/or 50pF load to AC ground.", 6 V- (power) "Power Supply Pins. For a single 3.3V or 5V supply (V- grounded) a quality 0.1µF ceramic bypass capacitor is required from the positive supply pin (V+) to the negative supply pin (V-). The bypass should be as close as (See Datasheet)", 7 VMID (in) "The VMID pin is internally biased at mid-supply, see block diagram. For single-supply operation the VMID pin should be bypassed with a quality 0.01uF ceramic capacitor to V-. For dual supply operation, VMID can be bypassed (See Datasheet)", 8 IN+ (in) "Input Pins. Signals can be applied to either or both input pins through identical external resistors, RIN. The DC gain from differential inputs to the differential outputs is 1580ohm/RIN."

## LT6600CS8-15#TRPBF
designator U?
Single Channel, Very Low Noise, Differential Amplifier and 15 MHz Lowpass Filter, 15 MHz Typical GBW, 2.7 to 11 V, 8-Pin SOIC (S8-8), Commercial, Pb-Free, Reel; Linear Technology Part Number: LT6600-15; Manufacturer: Linear Technology; PartNumber: LT6600CS8-15#TRPBF; Channels (#): 1; GBW (MHz) Typical: 15; Is (mA) Typical: 42; Vos (mV) Typical: 5; Vs Max (V): 11; Vs Min (V): 2.7; DatasheetVersion: Rev. B; PackageVersion: Rev G; PackageReference: LT-S8-8; PackageDescription: 8-Pin Plastic Small Outline, Body 4.9 x 3.9 mm, Pitch 1.27 mm; Supplier 1: Digi-Key; Supplier Part Number 1: LT6600CS8-15#TRPBF-ND; Packing: Reel; RoHS: Pb-Free; Type: DIFF; Mounting Technology: Surface Mount; ComponentLink1Description: Manufacturer URL; ComponentLink1URL: http://www.linear.com/; ComponentLink2Description: Datasheet; ComponentLink2URL: http://cds.linear.com/docs/en/datasheet/660015fb.pdf; ComponentLink3Description: Package Specification; ComponentLink3URL: http://cds.linear.com/docs/en/packaging/05081610_G_SO8.pdf
footprint LT-S8-8_N (SOIC, 8-Leads, Body 4.9x3.9mm, Pitch 1.27mm, IPC Medium Density)
footprint LT-S8-8_L (SOIC, 8-Leads, Body 4.9x3.9mm, Pitch 1.27mm, IPC High Density)
footprint LT-S8-8_M (SOIC, 8-Leads, Body 4.9x3.9mm, Pitch 1.27mm, IPC Low Density)
pins: 1 IN- (in) "Input Pins. Signals can be applied to either or both input pins through identical external resistors, RIN. The DC gain from differential inputs to the differential outputs is 1580ohm/RIN.", 2 VOCM (in) "Is the DC Common Mode Reference Voltage for the 2nd Filter Stage. Its value programs the common mode voltage of the differential output of the fi lter. This is a high impedance input, which can be driven from an external (See Datasheet)", 3 V+ (power) "Power Supply Pins. For a single 3.3V or 5V supply (V- grounded) a quality 0.1uF ceramic bypass capacitor is required from the positive supply pin (V+) to the negative supply pin (V-). The bypass should be as close as (See Datasheet)", 4 OUT+ (out) "Output Pins. These are the fi lter differential outputs. Each pin can drive a 100O and/or 50pF load to AC ground.", 5 OUT- (out) "Output Pins. These are the fi lter differential outputs. Each pin can drive a 100ohm and/or 50pF load to AC ground.", 6 V- (power) "Power Supply Pins. For a single 3.3V or 5V supply (V- grounded) a quality 0.1µF ceramic bypass capacitor is required from the positive supply pin (V+) to the negative supply pin (V-). The bypass should be as close as (See Datasheet)", 7 VMID (in) "The VMID pin is internally biased at mid-supply, see block diagram. For single-supply operation the VMID pin should be bypassed with a quality 0.01uF ceramic capacitor to V-. For dual supply operation, VMID can be bypassed (See Datasheet)", 8 IN+ (in) "Input Pins. Signals can be applied to either or both input pins through identical external resistors, RIN. The DC gain from differential inputs to the differential outputs is 1580ohm/RIN."